# Altium footprint library PcbLib1.PcbLib: 10 footprints
Each footprint in its own frame and in the unit in brackets; x right, y up, seen from the top. Pads: shape width x height; smd on the part's side, far side on the other; paste and mask are expansions set on the pad; w line width, h text height; cw(c..) or ccw(c..) is an arc to the next point about the centre after c.
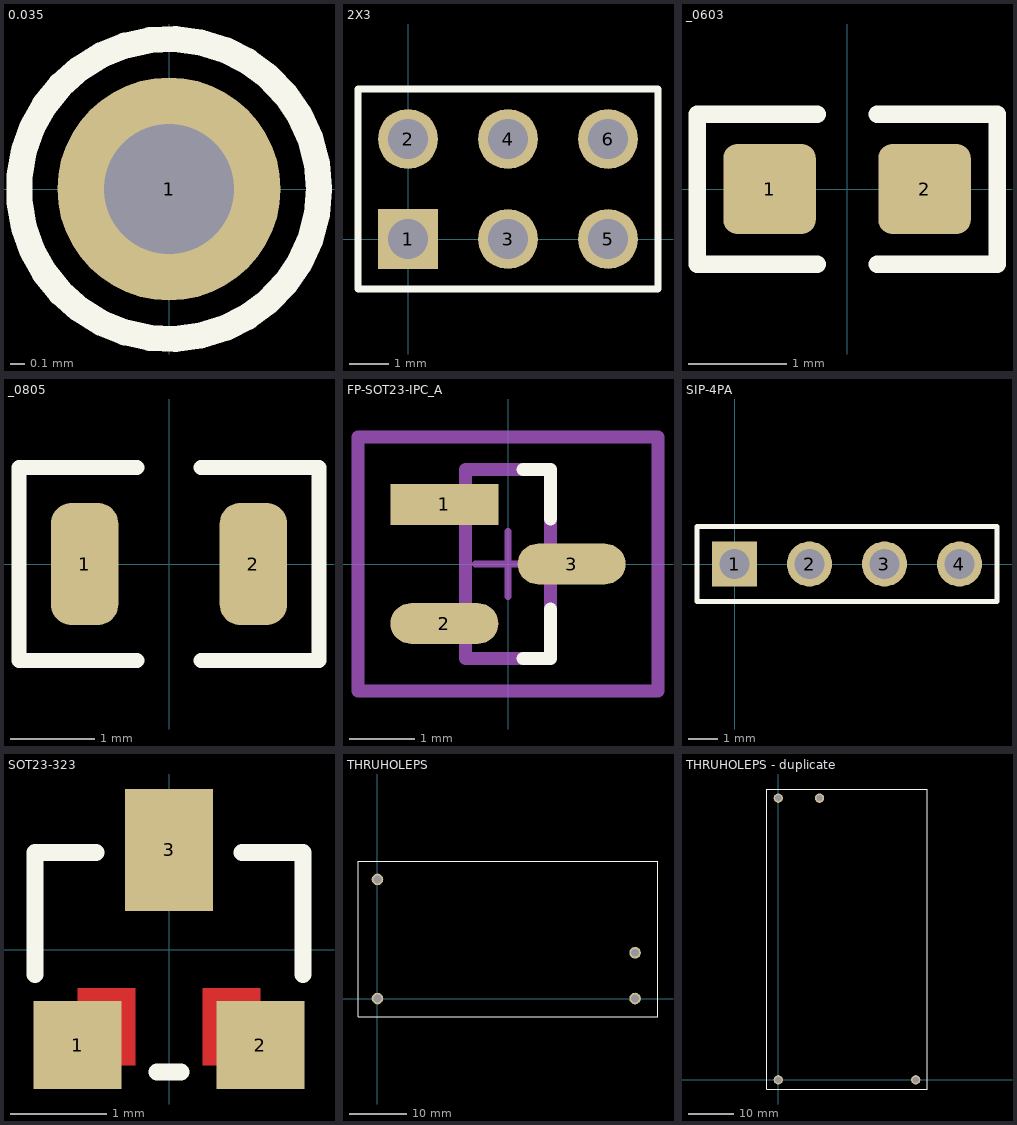
[diagram p0: the footprints below, top view; thin cyan lines are the x and y axes]

## 0.035 [mil]
pads (1):
  round 60 hole 35: 1(0,0)
Top Overlay:
  circle w7: c0,0 r40.31

## 2X3 [mil]
pads (6):
  rect 60x60 / inner round 60 / far side rect 60x60 hole 40: 1(0,0)
  round 60 hole 40: 2(0,100) 3(100,0) 4(100,100) 5(200,0) 6(200,100)
Top Overlay:
  lines w7: -50,-50 250,-50 250,150 -50,150 -50,-50

## _0603 [mil]
pads (2):
  rrect31% 37x36 smd: 1(-31,0) 2(31,0)
Top Overlay:
  lines w7: -12,-30 -60,-30 -60,30 -12,30 ; 12,-30 60,-30 60,30 12,30

## _0805 [mm]
pads (2):
  rrect62% 0.8x1.45 smd: 1(-1,0) 2(1,0)
Top Overlay:
  lines w0.178: -0.381,-1.143 -1.778,-1.143 -1.778,1.143 -0.381,1.143 ; 0.381,-1.143 1.778,-1.143 1.778,1.143 0.381,1.143

## FP-SOT23-IPC_A [mm]
height 9.1
pads (3):
  rect 1.659x0.627 smd paste+0 mask+0: 1(-0.977,0.915)
  rrect100% 1.659x0.627 smd paste+0 mask+0: 2(-0.977,-0.915) 3(0.977,0)
Top Overlay:
  lines w0.2: 0.228,-1.45 0.65,-1.45 0.65,-0.688 ; 0.228,1.45 0.65,1.45 0.65,0.688
Top Assembly:
  lines w0.2: -2.306,-1.95 2.306,-1.95 2.306,1.95 -2.306,1.95 -2.306,-1.95
  text ".Designator" at 0,-0.001 h1
Top Courtyard:
  lines w0.2: -2.306,-1.95 2.306,-1.95 2.306,1.95 -2.306,1.95 -2.306,-1.95
Top 3D Body:
  lines w0.2: -0.65,-1.45 0.65,-1.45 0.65,1.45 -0.65,1.45 -0.65,-1.45
Top Component Center:
  lines w0.1: -0.5,0 0.5,0 ; 0,-0.5 0,0.5

## PCBComponent_1 [mil]

## SIP-4PA [mil]
pads (4):
  rect 60x60 / inner round 60 / far side rect 60x60 hole 40: 1(0,0)
  round 60 hole 40: 2(100,0) 3(200,0) 4(300,0)
Top Overlay:
  lines w7: -50,-50 -50,50 350,50 350,-50 -50,-50

## SOT23-323 [mil]
pads (3):
  rect 36x36 smd: 1(-37.5,-39) 2(37.5,-39)
  rect 36x50 smd: 3(0,41)
Top Layer:
  region: 13.78,-47.24 37.4,-47.24 37.4,-15.75 13.78,-15.75
  region: -13.78,-47.24 -37.4,-47.24 -37.4,-15.75 -13.78,-15.75
Top Overlay:
  lines w7: -55,-10 -55,40 -30,40 ; -5,-50 5,-50 ; 30,40 55,40 55,-10

## THRUHOLEPS [mil]
pads (4):
  round 80 hole 53: +VO(1771.65,314.96) -VO(1771.65,0) ACL(0,0) ACN(0,818.9)
Top Overlay:
  lines w7: -133.86,-125.98 -133.86,944.88 1929.13,944.88 1929.13,-125.98 -133.86,-125.98

## THRUHOLEPS - duplicate [mil]
height 216.54
pads (4):
  round 80 hole 53: +VO(0,2421.26) -VO(354.33,2421.26) ACL(0,0) ASN(1181.1,0)
Top Overlay:
  lines w7: -98.43,-78.74 1279.53,-78.74 1279.53,2500 -98.43,2500 -98.43,-78.74